# Altium footprint library ESD5Z5P0T1G.PcbLib: 3 footprints
Each footprint in its own frame and in the unit in brackets; x right, y up, seen from the top. Pads: shape width x height; smd on the part's side, far side on the other; paste and mask are expansions set on the pad; w line width, h text height; cw(c..) or ccw(c..) is an arc to the next point about the centre after c.
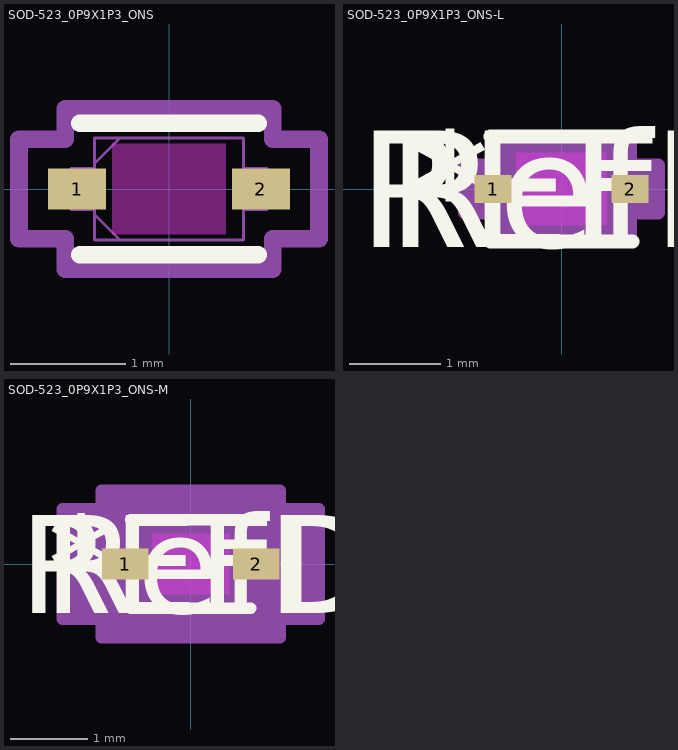
[diagram p0: the footprints below, top view; thin cyan lines are the x and y axes]

## SOD-523_0P9X1P3_ONS [mil]
pads (2):
  rect 19.87x14 smd paste+0 mask+0: 1(-31.44,0) 2(31.44,0)
Top Layer keep-out:
  region: -19.5,-15.5 -19.5,15.5 19.5,15.5 19.5,-15.5
Top Overlay:
  lines w6: -30.5,-22.5 30.5,-22.5 ; -30.5,22.5 30.5,22.5
Keep-Out Layer:
  region: -19.5,-15.5 -19.5,15.5 19.5,15.5 19.5,-15.5
Mechanical 13:
  lines w1: -25.5,-8.75 -16.75,-17.5 ; -25.5,8.75 -16.75,17.5 ; -33.5,-7 -25.5,-7 -25.5,7 -33.5,7 -33.5,-7 ; -25.5,-17.5 -25.5,17.5 25.5,17.5 25.5,-17.5 -25.5,-17.5 ; 25.5,-7 33.5,-7 33.5,7 25.5,7 25.5,-7
Mechanical 15:
  lines w6: -51.37,-17 -35.5,-17 -35.5,-27.5 35.5,-27.5 35.5,-17 51.37,-17 51.37,17 35.5,17 35.5,27.5 -35.5,27.5 -35.5,17 -51.37,17 -51.37,-17
3D body "SOD-523_0P9X1P3_ONS.step": height 18.27, standoff 0, extent -33.5,-17.48 33.5,17.48

## SOD-523_0P9X1P3_ONS-L [mil]
pads (2):
  rect 15.94x12.03 smd paste+0 mask+0: 1(-29.47,0) 2(29.47,0)
Top Layer keep-out:
  region: -19.5,-15.5 -19.5,15.5 19.5,15.5 19.5,-15.5
Top Overlay:
  lines w6: -30.5,-22.5 30.5,-22.5 ; -30.5,22.5 30.5,22.5
  text "REFDES" at -87.5,-25 h50
  text "*" at -64.94,-25 h50
  text "RefDes" at -75,-25 h50
Keep-Out Layer:
  region: -19.5,-15.5 -19.5,15.5 19.5,15.5 19.5,-15.5
Mechanical 13:
  lines w1: -25.5,-8.75 -16.75,-17.5 ; -25.5,8.75 -16.75,17.5 ; -33.5,-7 -33.5,7 -25.5,7 -25.5,-7 -33.5,-7 ; -25.5,-17.5 25.5,-17.5 25.5,17.5 -25.5,17.5 -25.5,-17.5 ; 25.5,-7 25.5,7 33.5,7 33.5,-7 25.5,-7
  text "*" at -28,-25 h50
  text "RefDes2" at -87.5,-25 h50
Mechanical 15:
  region: -29.5,-10.02 -41.44,-10.02 -41.44,10.02 -29.5,10.02 -29.5,21.5 29.5,21.5 29.5,10.02 41.44,10.02 41.44,-10.02 29.5,-10.02 29.5,-21.5 -29.5,-21.5
  lines w6: -41.44,-10.02 -41.44,10.02 -29.5,10.02 -29.5,21.5 29.5,21.5 29.5,10.02 41.44,10.02 41.44,-10.02 29.5,-10.02 29.5,-21.5 -29.5,-21.5 -29.5,-10.02 -41.44,-10.02
3D body "SOD-523_0P9X1P3_ONS.step": height 18.27, standoff 0, extent -33.5,-17.48 33.5,17.48

## SOD-523_0P9X1P3_ONS-M [mil]
pads (2):
  rect 23.81x15.97 smd paste+0 mask+0: 1(-33.41,0) 2(33.41,0)
Top Layer keep-out:
  region: -19.5,-15.5 -19.5,15.5 19.5,15.5 19.5,-15.5
Top Overlay:
  lines w6: -30.5,-22.5 30.5,-22.5 ; -30.5,22.5 30.5,22.5
  text "REFDES" at -87.5,-25 h50
  text "*" at -72.81,-25 h50
  text "RefDes" at -75,-25 h50
Keep-Out Layer:
  region: -19.5,-15.5 -19.5,15.5 19.5,15.5 19.5,-15.5
Mechanical 13:
  lines w1: -25.5,-8.75 -16.75,-17.5 ; -25.5,8.75 -16.75,17.5 ; -33.5,-7 -33.5,7 -25.5,7 -25.5,-7 -33.5,-7 ; -25.5,-17.5 25.5,-17.5 25.5,17.5 -25.5,17.5 -25.5,-17.5 ; 25.5,-7 25.5,7 33.5,7 33.5,-7 25.5,-7
  text "*" at -28,-25 h50
  text "RefDes2" at -87.5,-25 h50
Mechanical 15:
  region: -45.5,-27.98 -65.31,-27.98 -65.31,27.98 -45.5,27.98 -45.5,37.5 45.5,37.5 45.5,27.98 65.31,27.98 65.31,-27.98 45.5,-27.98 45.5,-37.5 -45.5,-37.5
  lines w6: -65.31,-27.98 -65.31,27.98 -45.5,27.98 -45.5,37.5 45.5,37.5 45.5,27.98 65.31,27.98 65.31,-27.98 45.5,-27.98 45.5,-37.5 -45.5,-37.5 -45.5,-27.98 -65.31,-27.98
3D body "SOD-523_0P9X1P3_ONS.step": height 18.27, standoff 0, extent -33.5,-17.48 33.5,17.48